# EAGLE library part LPC1754 (library lpc1xxx-v6)
LPC1754 100 MHz 32-bit ARM Cortex-M3 based microcontroller featuring a high level of integration and low power consumption. 128 kB Flash, 32 kB SRAM, USB Device/Host/OTG, CAN, DAC MarcVl - Datasheet available on www.nxp.com
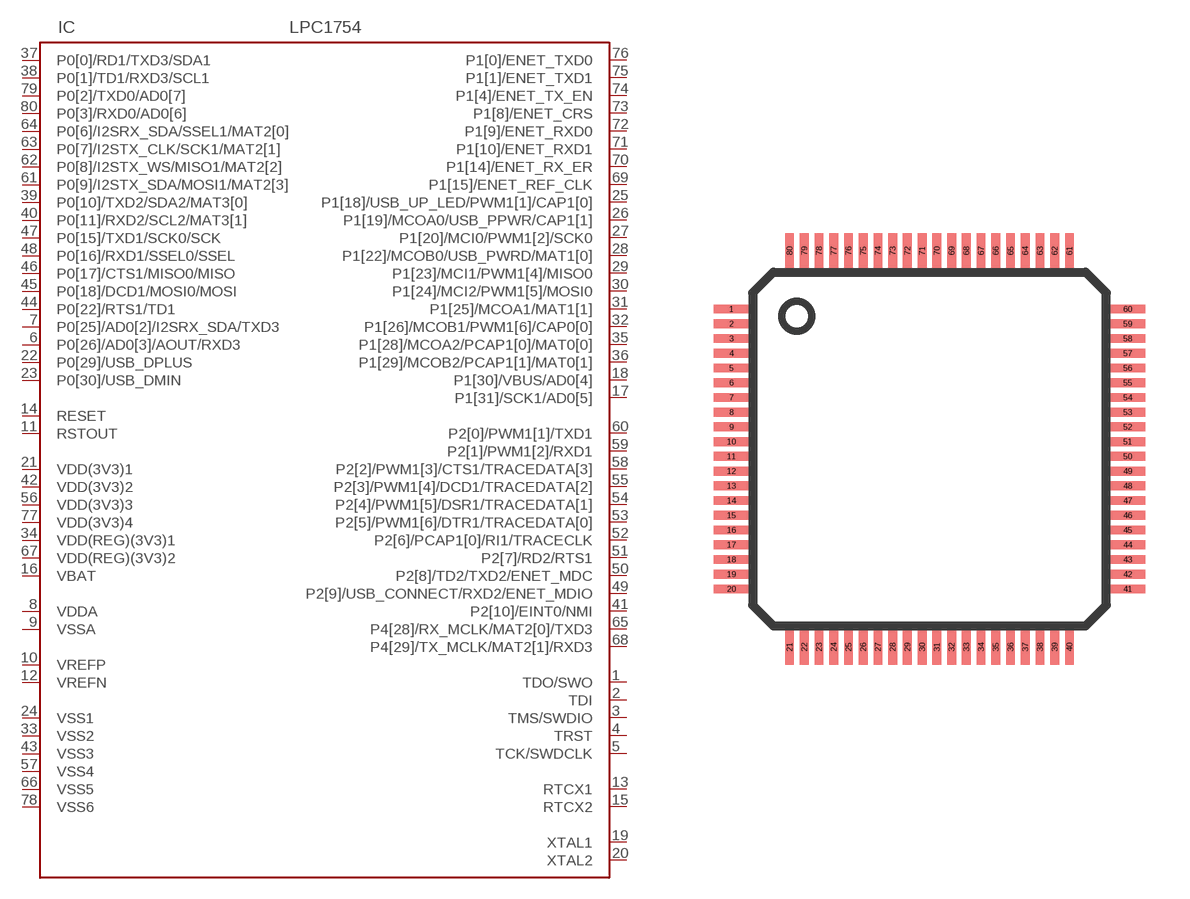
[diagram p2: symbol with the pads of LQFP80-12X12; footprint LQFP80-12X12]

Designator prefix IC

## LPC1754  [LQFP80-12X12]
1  TDO/SWO  out
2  TDI  in
3  TMS/SWDIO
4  TRST
5  TCK/SWDCLK
6  P0[26]/AD0[3]/AOUT/RXD3
7  P0[25]/AD0[2]/I2SRX_SDA/TXD3
8  VDDA  pwr
9  VSSA  pwr
10  VREFP  in
11  RSTOUT  out
12  VREFN  in
13  RTCX1  in
14  RESET  in
15  RTCX2  out
16  VBAT  pwr
17  P1[31]/SCK1/AD0[5]
18  P1[30]/VBUS/AD0[4]
19  XTAL1  in
20  XTAL2  out
21  VDD(3V3)1  pwr
22  P0[29]/USB_DPLUS
23  P0[30]/USB_DMIN
24  VSS1  pwr
25  P1[18]/USB_UP_LED/PWM1[1]/CAP1[0]
26  P1[19]/MCOA0/USB_PPWR/CAP1[1]
27  P1[20]/MCI0/PWM1[2]/SCK0
28  P1[22]/MCOB0/USB_PWRD/MAT1[0]
29  P1[23]/MCI1/PWM1[4]/MISO0
30  P1[24]/MCI2/PWM1[5]/MOSI0
31  P1[25]/MCOA1/MAT1[1]
32  P1[26]/MCOB1/PWM1[6]/CAP0[0]
33  VSS2  pwr
34  VDD(REG)(3V3)1  pwr
35  P1[28]/MCOA2/PCAP1[0]/MAT0[0]
36  P1[29]/MCOB2/PCAP1[1]/MAT0[1]
37  P0[0]/RD1/TXD3/SDA1
38  P0[1]/TD1/RXD3/SCL1
39  P0[10]/TXD2/SDA2/MAT3[0]
40  P0[11]/RXD2/SCL2/MAT3[1]
41  P2[10]/EINT0/NMI
42  VDD(3V3)2  pwr
43  VSS3  pwr
44  P0[22]/RTS1/TD1
45  P0[18]/DCD1/MOSI0/MOSI
46  P0[17]/CTS1/MISO0/MISO
47  P0[15]/TXD1/SCK0/SCK
48  P0[16]/RXD1/SSEL0/SSEL
49  P2[9]/USB_CONNECT/RXD2/ENET_MDIO
50  P2[8]/TD2/TXD2/ENET_MDC
51  P2[7]/RD2/RTS1
52  P2[6]/PCAP1[0]/RI1/TRACECLK
53  P2[5]/PWM1[6]/DTR1/TRACEDATA[0]
54  P2[4]/PWM1[5]/DSR1/TRACEDATA[1]
55  P2[3]/PWM1[4]/DCD1/TRACEDATA[2]
56  VDD(3V3)3  pwr
57  VSS4  pwr
58  P2[2]/PWM1[3]/CTS1/TRACEDATA[3]
59  P2[1]/PWM1[2]/RXD1
60  P2[0]/PWM1[1]/TXD1
61  P0[9]/I2STX_SDA/MOSI1/MAT2[3]
62  P0[8]/I2STX_WS/MISO1/MAT2[2]
63  P0[7]/I2STX_CLK/SCK1/MAT2[1]
64  P0[6]/I2SRX_SDA/SSEL1/MAT2[0]
65  P4[28]/RX_MCLK/MAT2[0]/TXD3
66  VSS5  pwr
67  VDD(REG)(3V3)2  pwr
68  P4[29]/TX_MCLK/MAT2[1]/RXD3
69  P1[15]/ENET_REF_CLK
70  P1[14]/ENET_RX_ER
71  P1[10]/ENET_RXD1
72  P1[9]/ENET_RXD0
73  P1[8]/ENET_CRS
74  P1[4]/ENET_TX_EN
75  P1[1]/ENET_TXD1
76  P1[0]/ENET_TXD0
77  VDD(3V3)4  pwr
78  VSS6  pwr
79  P0[2]/TXD0/AD0[7]
80  P0[3]/RXD0/AD0[6]

## Footprint LQFP80-12X12 (pad centres in mm)
LQFP80 Low profile Quad Flat Package 12x12x1.4 mm
smd 1.2 x 0.3: 1 -6.725,4.75; 2 -6.725,4.25; 3 -6.725,3.75; 4 -6.725,3.25; 5 -6.725,2.75; 6 -6.725,2.25; 7 -6.725,1.75; 8 -6.725,1.25; 9 -6.725,0.75; 10 -6.725,0.25; 11 -6.725,-0.25; 12 -6.725,-0.75; 13 -6.725,-1.25; 14 -6.725,-1.75; 15 -6.725,-2.25; 16 -6.725,-2.75; 17 -6.725,-3.25; 18 -6.725,-3.75; 19 -6.725,-4.25; 20 -6.725,-4.75; 41 6.725,-4.75; 42 6.725,-4.25; 43 6.725,-3.75; 44 6.725,-3.25; 45 6.725,-2.75; 46 6.725,-2.25; 47 6.725,-1.75; 48 6.725,-1.25; 49 6.725,-0.75; 50 6.725,-0.25; 51 6.725,0.25; 52 6.725,0.75; 53 6.725,1.25; 54 6.725,1.75; 55 6.725,2.25; 56 6.725,2.75; 57 6.725,3.25; 58 6.725,3.75; 59 6.725,4.25; 60 6.725,4.75
smd 0.3 x 1.2: 21 -4.75,-6.725; 22 -4.25,-6.725; 23 -3.75,-6.725; 24 -3.25,-6.725; 25 -2.75,-6.725; 26 -2.25,-6.725; 27 -1.75,-6.725; 28 -1.25,-6.725; 29 -0.75,-6.725; 30 -0.25,-6.725; 31 0.25,-6.725; 32 0.75,-6.725; 33 1.25,-6.725; 34 1.75,-6.725; 35 2.25,-6.725; 36 2.75,-6.725; 37 3.25,-6.725; 38 3.75,-6.725; 39 4.25,-6.725; 40 4.75,-6.725; 61 4.75,6.725; 62 4.25,6.725; 63 3.75,6.725; 64 3.25,6.725; 65 2.75,6.725; 66 2.25,6.725; 67 1.75,6.725; 68 1.25,6.725; 69 0.75,6.725; 70 0.25,6.725; 71 -0.25,6.725; 72 -0.75,6.725; 73 -1.25,6.725; 74 -1.75,6.725; 75 -2.25,6.725; 76 -2.75,6.725; 77 -3.25,6.725; 78 -3.75,6.725; 79 -4.25,6.725; 80 -4.75,6.725